# Altium footprint library diode.PCBLIB: 206 footprints (part 1 of 13)
Each footprint in its own frame and in the unit in brackets; x right, y up, seen from the top. Pads: shape width x height; smd on the part's side, far side on the other; paste and mask are expansions set on the pad; w line width, h text height; cw(c..) or ccw(c..) is an arc to the next point about the centre after c.
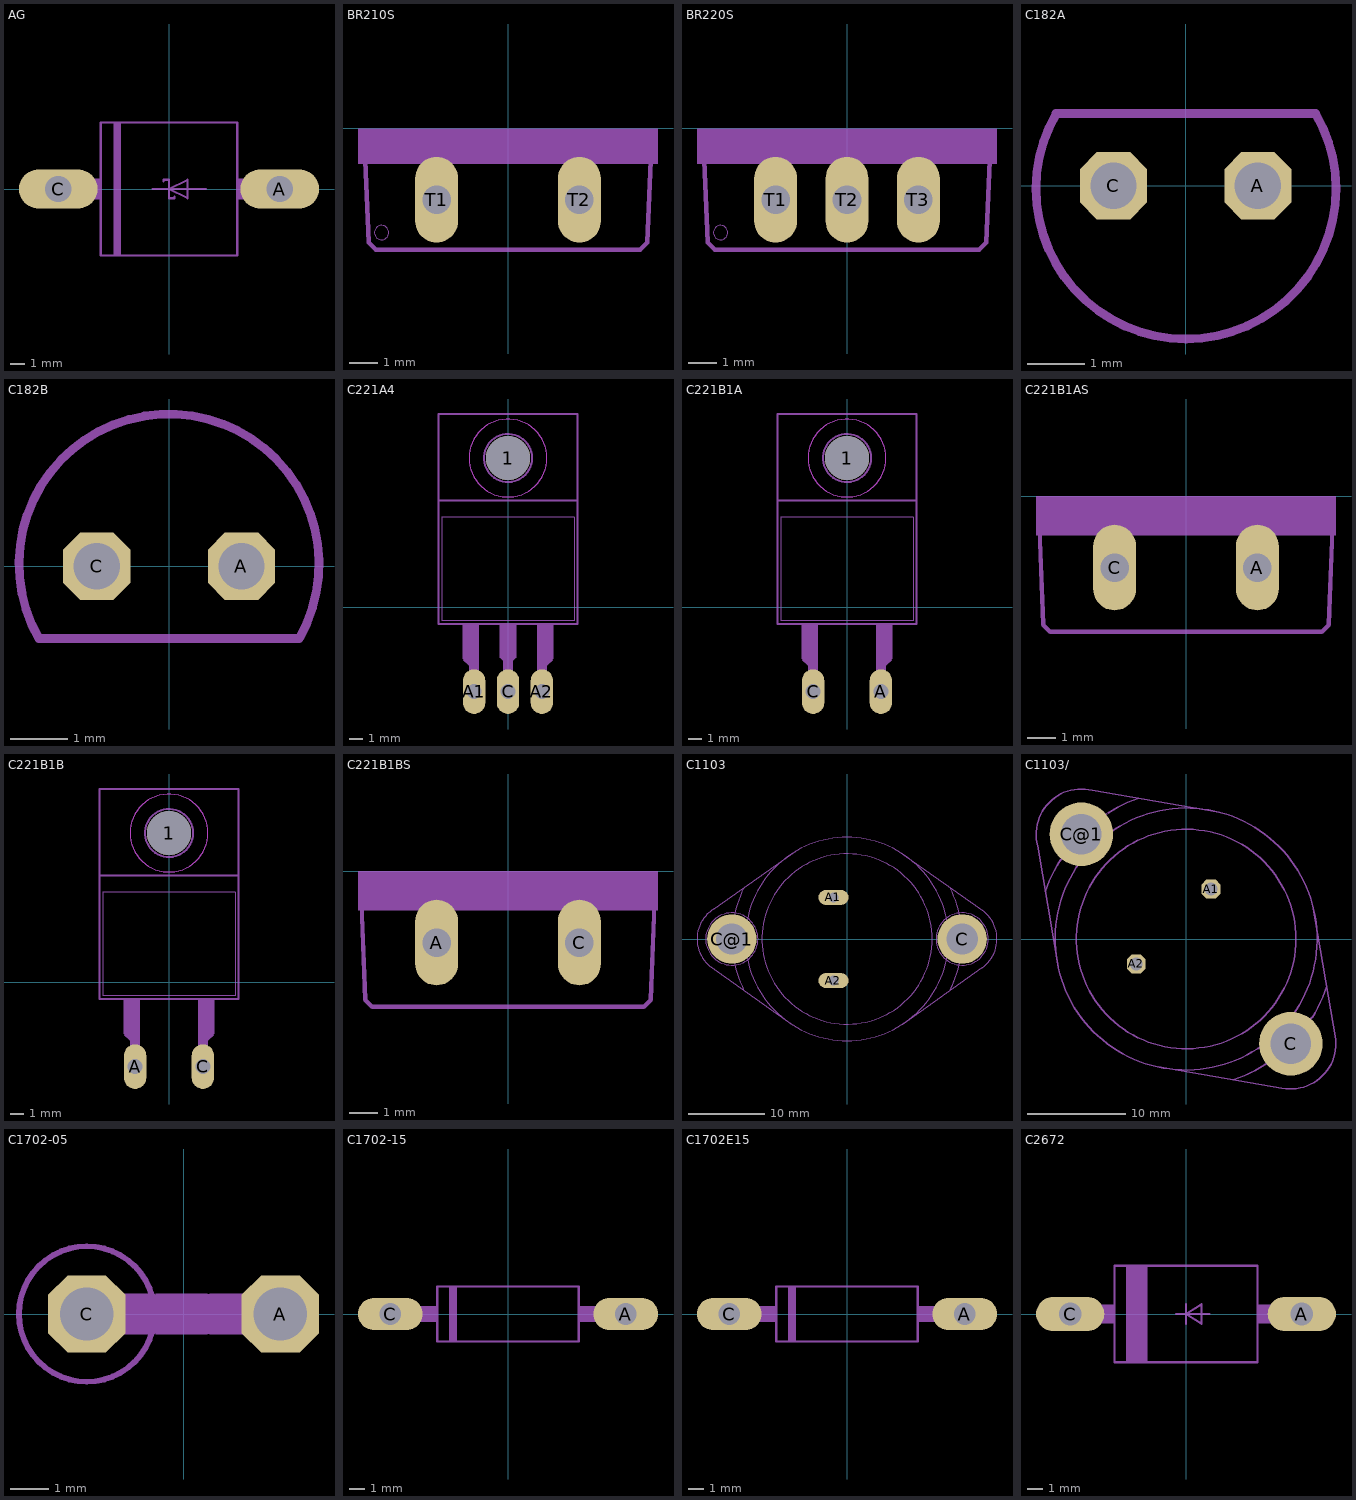
[diagram p0: the footprints below, top view; thin cyan lines are the x and y axes]

## AG [mil]
pads (2):
  oval 213x106.5 hole 71: A(300,0) C(-300,0)
Mechanical 2:
  rectangle: -150,-180 -130,180
  rectangle: 185,-28 221,28
  rectangle: -221,-28 -185,28
  lines w6: -45,0 0,0 ; -15,20 -15,25 0,25 0,0 ; 15,-20 15,-25 0,-25 0,0 ; 100,0 0,0 ; 0,0 50,25 50,-25 0,0 ; -185,-180 -185,180 185,180 185,-180 -185,-180
Mechanical 18:
  lines w58: -300,0 -230,0 ; 230,0 300,0

## BR210S [mil]
pads (2):
  oval 60x120 hole 40: T1(-100,-100) T2(100,-100)
Mechanical 2:
  circle w0: c-177,-146 r10
  rectangle: -210,-30 210,0
  rectangle: -210,-50 -135,-30
  rectangle: 135,-50 210,-30
  rectangle: -65,-50 65,-30
  lines w6: -200,-45 -195,-160 -185,-170 185,-170 195,-160 200,-45
Mechanical 18:
  rectangle: -135,-50 -65,-30
  rectangle: 65,-50 135,-30

## BR220S [mil]
pads (3):
  oval 60x120 hole 40: T1(-100,-100) T2(0,-100) T3(100,-100)
Mechanical 2:
  circle w0: c-177,-146 r10
  rectangle: -210,-30 210,0
  rectangle: -210,-50 -135,-30
  rectangle: -65,-50 -35,-30
  rectangle: 35,-50 65,-30
  rectangle: 135,-50 210,-30
  lines w6: -200,-45 -195,-160 -185,-170 185,-170 195,-160 200,-45
Mechanical 18:
  rectangle: -135,-50 -65,-30
  rectangle: -35,-50 35,-30
  rectangle: 65,-50 135,-30

## C182A [mil]
pads (2):
  oct 46.48x46.48 hole 32: A(50,0) C(-50,0)
Mechanical 2:
  lines w6: -90,50 90,50 cw(c0.28,-2.27) -89.39,50.09

## C182B [mil]
pads (2):
  oct 46.48x46.48 hole 32: A(50,0) C(-50,0)
Mechanical 2:
  lines w6: 90,-50 -90,-50 cw(c-0.07,1.52) 90.37,-49.11

## C221A4 [mil]
pads (4):
  round 130 hole 130: 1(0,440)
  oval 66x132 hole 44: A1(-100,-250) A2(100,-250) C(0,-250)
Mechanical 2:
  circle w6: c0,440 r71
  rectangle: 85,-175 115,-150
  rectangle: -115,-175 -85,-150
  rectangle: -135,-150 -85,-50
  rectangle: 85,-150 135,-50
  rectangle: -25,-150 25,-50
  rectangle: -15,-175 15,-150
  lines w2: -195,-40 195,-40 195,265 -195,265 -195,-40
  lines w6: -205,315 205,315 ; -205,315 -205,570 205,570 205,315 ; -205,315 -205,-50 205,-50 205,315
  lines w20: -125,-150 -110,-165 ; -15,-145 0,-160 15,-145 ; 110,-165 125,-150
Mechanical 11 keep-out:
  circle w0: c0,440 r115
Mechanical 12:
  circle w0: c0,440 r115
Mechanical 18:
  rectangle: 85,-250 115,-175
  rectangle: -115,-250 -85,-175
  rectangle: -15,-250 15,-175

## C221B1A [mil]
pads (3):
  round 130 hole 130: 1(0,440)
  oval 66x132 hole 44: A(100,-250) C(-100,-250)
Mechanical 2:
  circle w6: c0,440 r71
  rectangle: 85,-175 115,-150
  rectangle: -115,-175 -85,-150
  rectangle: -135,-150 -85,-50
  rectangle: 85,-150 135,-50
  lines w2: -195,-40 195,-40 195,265 -195,265 -195,-40
  lines w6: -205,315 205,315 ; -205,315 -205,570 205,570 205,315 ; -205,315 -205,-50 205,-50 205,315
  lines w20: -125,-150 -110,-165 ; 110,-165 125,-150
Mechanical 11 keep-out:
  circle w0: c0,440 r115
Mechanical 12:
  circle w0: c0,440 r115
Mechanical 18:
  rectangle: 85,-250 115,-175
  rectangle: -115,-250 -85,-175

## C221B1AS [mil]
pads (2):
  oval 60x120 hole 40: A(100,-100) C(-100,-100)
Mechanical 2:
  rectangle: -210,-55 -135,-35
  rectangle: 135,-55 210,-35
  rectangle: -65,-55 65,-35
  rectangle: -210,-35 210,0
  lines w6: -205,-45 -200,-180 -190,-190 190,-190 200,-180 205,-45
Mechanical 18:
  rectangle: -135,-55 -65,-35
  rectangle: 65,-55 135,-35

## C221B1B [mil]
pads (3):
  round 130 hole 130: 1(0,440)
  oval 66x132 hole 44: A(-100,-250) C(100,-250)
Mechanical 2:
  circle w6: c0,440 r71
  rectangle: 85,-175 115,-150
  rectangle: -115,-175 -85,-150
  rectangle: -135,-150 -85,-50
  rectangle: 85,-150 135,-50
  lines w2: -195,-40 195,-40 195,265 -195,265 -195,-40
  lines w6: -205,315 205,315 ; -205,315 -205,570 205,570 205,315 ; -205,315 -205,-50 205,-50 205,315
  lines w20: -125,-150 -110,-165 ; 110,-165 125,-150
Mechanical 11 keep-out:
  circle w0: c0,440 r115
Mechanical 12:
  circle w0: c0,440 r115
Mechanical 18:
  rectangle: 85,-250 115,-175
  rectangle: -115,-250 -85,-175

## C221B1BS [mil]
pads (2):
  oval 60x120 hole 40: A(-100,-100) C(100,-100)
Mechanical 2:
  rectangle: -210,-55 -135,-35
  rectangle: 135,-55 210,-35
  rectangle: -65,-55 65,-35
  rectangle: -210,-35 210,0
  lines w6: -205,-45 -200,-180 -190,-190 190,-190 200,-180 205,-45
Mechanical 18:
  rectangle: -135,-55 -65,-35
  rectangle: 65,-55 135,-35

## C1103 [mil]
pads (4):
  oval 156x78 hole 52: A1(-70,215) A2(-70,-215)
  round 255 hole 162: C(595,0) C@1(-595,0)
Mechanical 2:
  circle w6: c0,0 r440
  lines w6: -685.08,-157.14 cw(c-593,0) -687,156 -265,453 ; -685,-157 -284,-442 ; -580,-134 ccw(c0.02,0.01) -532.43,-266.22 ; -579.53,133.89 cw(c0.01,0.01) -533,264 ; -514,-108 ccw(c0,0) 514,-108 ; -514,108 cw(c0,0) 514,108 ; 265,453 709,140 ; 284,-442 694,-151 ccw(c593,0) 708.91,139.89 ; 532,-266 ccw(c0,0.01) 579.53,-133.89 cw(c-0.01,-0.01) 533,-264 ; 533.43,264.21 cw(c0.01,0) 580,134
Mechanical 18:
  circle w6: c594,0 r80
  circle w6: c595,0 r135
  circle w6: c-595,0 r135
  circle w6: c-594,0 r80
  lines w6: -590,-80 ccw(c0.03,-0.03) -580.12,-134.03 ; -589.22,79.89 cw(c0.04,-0.02) -580,131 ; -524,-39 ccw(c0.02,0) -514.22,-108.05 ; -523.78,38.98 cw(c0.03,-0.04) -514,108 ; 514,-108 ccw(c-0.03,0.04) 523.78,-38.98 ; 514.22,108.05 cw(c-0.02,0) 524,39 ; 580,-134 ccw(c-0.05,0) 589.88,-79.98 ; 580.12,134.03 cw(c-0.03,0.03) 590,80 ccw(c0.04,0) 580.77,131.17 ; 580,-131 ccw(c-0.04,0.02) 589.22,-79.89 ; 580,-131 ccw(c-0.04,0.02) 589.22,-79.89 ; 580,-131 ccw(c-0.04,0.02) 589.22,-79.89

## C1103/ [mil]
pads (4):
  oct 75.52x75.52 hole 52: A1(100,200) A2(-200,-100)
  round 255 hole 162: C(420,-420) C@1(-420,420)
Mechanical 2:
  circle w6: c0,0 r440
  lines w6: -595.21,372.94 cw(c-420,420) -376,596 133,508 ; -595,373 -513,-112 ; -564.35,189.11 cw(c0.02,-0.02) -505,315 ; -440,287 ccw(c0,0) 287,-440 ; -314.98,504.96 cw(c0,-0.02) -190,564 ; -287,440 cw(c0,0) 440,-287 ; -112,-513 384,-598 ccw(c419,-420) 599.52,-402.05 ; 189,-564 ccw(c-0.01,0.01) 314.81,-504.69 ; 190,-564 ccw(c0,0.02) 314.98,-504.96 ; 505,-315 ccw(c0.02,-0.01) 564.04,-190.02 ; 508,133 600,-402
Mechanical 18:
  circle w6: c-420,420 r80
  circle w6: c420,-420 r80
  lines w6: -504.34,314.59 cw(c0.01,0.03) -473,360 ; -440.07,287.04 cw(c0.02,-0.02) -398,343 ; -360.41,473.54 cw(c-0.03,-0.01) -318,503 ; -342.95,397.94 cw(c-0.01,-0.01) -287,440 ; 287,-440 ccw(c0.01,0.01) 342.95,-397.94 ; 315,-505 ccw(c-0.07,0.02) 360.47,-473.61 ; 398,-343 ccw(c-0.02,0.02) 440.07,-287.04 ; 502.43,-317.64 cw(c0.03,0.01) 473,-360 ccw(c-0.01,-0.03) 504.34,-314.59 ; 318,-503 ccw(c0.03,0.01) 360.41,-473.54 ; 318,-503 ccw(c0.03,0.01) 360.41,-473.54 ; 318,-503 ccw(c0.03,0.01) 360.41,-473.54

## C1702-05 [mil]
pads (2):
  oct 79.88x79.88 hole 55: A(100,0) C(-100,0)
Mechanical 2:
  circle w6: c-100,0 r70
  rectangle: -29,-21 25,21
Mechanical 18:
  lines w42: -100,0 -35,0 ; 30,0 100,0

## C1702-15 [mil]
pads (2):
  oval 165x82.5 hole 55: A(300,0) C(-300,0)
Mechanical 2:
  rectangle: -150,-70 -130,70
  rectangle: 180,-21 234,21
  rectangle: -234,-21 -180,21
  lines w6: -180,-70 -180,70 180,70 180,-70 -180,-70
Mechanical 18:
  lines w44: -300,0 -240,0 ; 240,0 300,0

## C1702E15 [mil]
pads (2):
  oval 165x82.5 hole 55: A(300,0) C(-300,0)
Mechanical 2:
  rectangle: -150,-70 -130,70
  rectangle: 180,-21 234,21
  rectangle: -234,-21 -180,21
  lines w6: -180,-70 -180,70 180,70 180,-70 -180,-70
Mechanical 18:
  lines w44: -300,0 -240,0 ; 240,0 300,0

## C2672 [mil]
pads (2):
  oval 177x88.5 hole 59: A(300,0) C(-300,0)
Mechanical 2:
  rectangle: 185,-25 230,25
  rectangle: -230,-25 -185,25
  rectangle: -155,-125 -100,125
  lines w6: -25,0 0,0 ; 0,-25 0,0 ; 0,25 0,0 ; 60,0 0,0 ; 0,0 40,-25 40,25 0,0 ; -185,-125 185,-125 185,125 -185,125 -185,-125
Mechanical 18:
  lines w50: -300,0 -235,0 ; 235,0 300,0